# Altium schematic symbol library Toshiba optocoupler.SchLib: 2 symbols
Pins are listed as number, name and electrical type; pins without a type are passive.

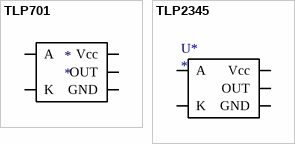
[diagram p0: symbols TLP701 to TLP2345]

## TLP701
designator *
footprint TLP701
pins: 1 A, 3 K, 4 GND, 5 OUT, 6 Vcc

## TLP2345
designator U*
footprint TLP2345
pins: 1 A, 3 K, 4 GND, 5 OUT (out), 6 Vcc